# EAGLE library part 1-84952-1 (library 1-84952-1)
FFC & FPC Connectors 1MM FPC HORZ .BTTM CONT.ASS.11P Source: Datasheet <https://componentsearchengine.com/Datasheets/2/1-84952-1.pdf>
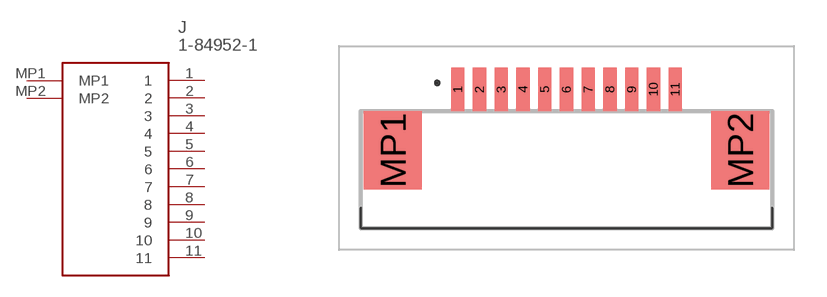
[diagram p0: symbol with the pads of 1849521; footprint 1849521]

Designator prefix J

## 1-84952-1 (Description: FFC & FPC Connectors 1MM FPC HORZ .BTTM CONT.ASS.11P; Height: 2.74mm; Manufacturer_Name: TE Connectivity; Manufacturer_Part_Number: 1-84952-1; Mouser_Part_Number: 571-1-84952-1; Mouser_Price-Stock: https://www.mouser.co.uk/ProductDetail/TE-Connectivity/1-84952-1?qs=uUkeXfjQ8uS9Vjbveobf0Q%3D%3D)  [1849521]
1  1
2  2
3  3
4  4
5  5
6  6
7  7
8  8
9  9
10  10
11  11
MP1  MP1
MP2  MP2

## Footprint 1849521 (pad centres in mm)
1-84952-1-1
smd 0.61 x 2: 1 -5,3.7; 2 -4,3.7; 3 -3,3.7; 4 -2,3.7; 5 -1,3.7; 6 0,3.7; 7 1,3.7; 8 2,3.7; 9 3,3.7; 10 4,3.7; 11 5,3.7
smd 2.68 x 3.6: MP1 -7.99,0.9; MP2 7.99,0.9